# Altium integrated library Crystals.IntLib: 2 symbols
Pins are listed as number, name and electrical type; pins without a type are passive.

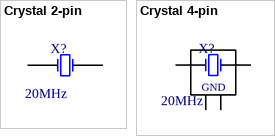
[diagram p0: symbols Crystal 2-pin to Crystal 4-pin]

## Crystal 2-pin
designator X?, comment Frequency: 20MHz  (hidden comment: Crystal)
2-pin crystal resonator
footprint HC49-US
footprint ABS10 (ABS10 Crystal (32.768kHz))
pins: 1 OSC1, 2 OSC2

## Crystal 4-pin
designator X?, comment Frequency: 20MHz  (hidden comment: Crystal)
4-pin crystal resonator
footprint TSX-3225 (TSX-3225 Crystal)
pins: 1 OSC1, 2 GND, 3 OSC2, 4 GND